# Altium integrated library Analog Devices Data Converters Digital-to-Analog Converters.IntLib: 2231 symbols (part 63 of 181)
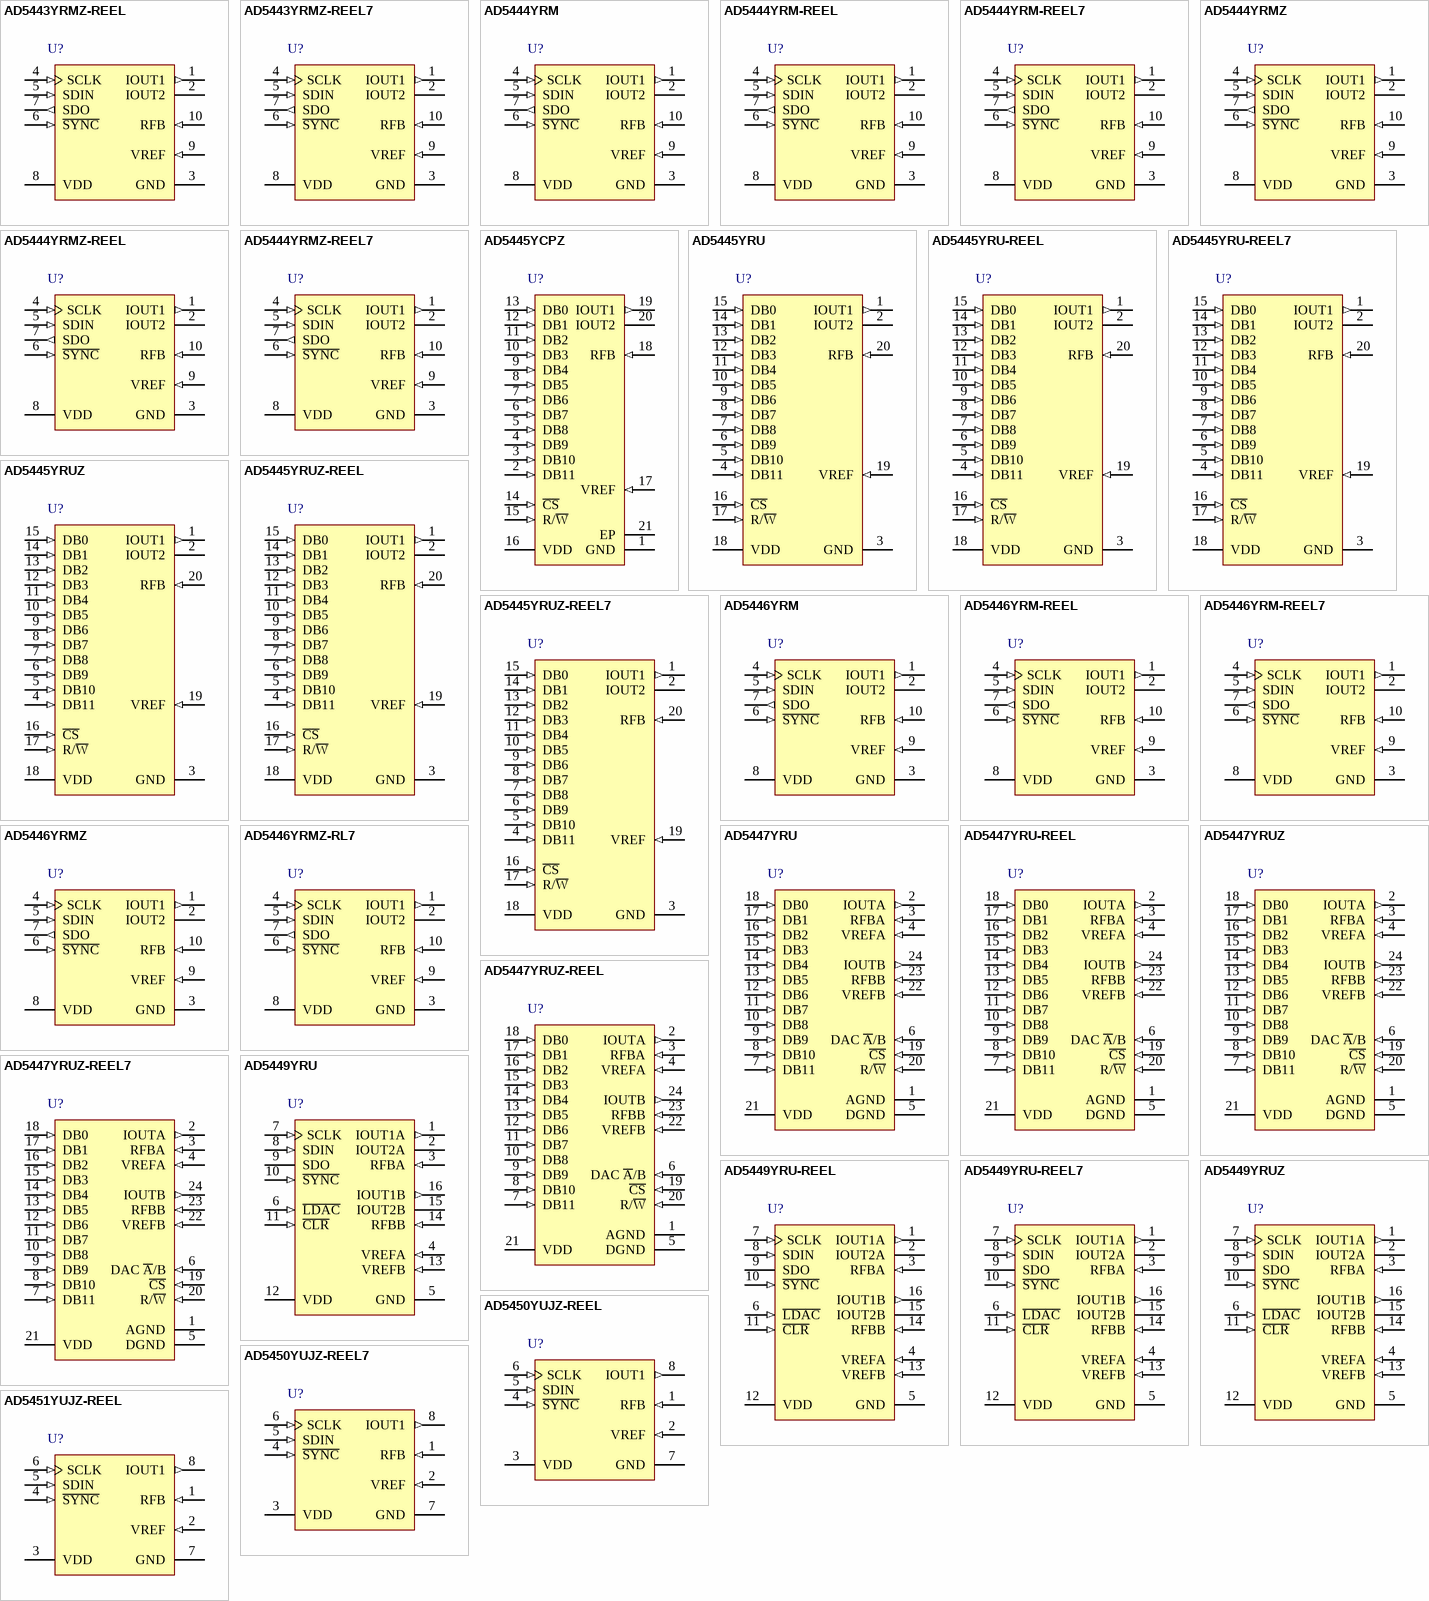
[diagram p176: symbols AD5443YRMZ-REEL to AD5451YUJZ-REEL]

## AD5450YUJZ-REEL7
designator U?
Single 8-Bit High Bandwidth Multiplying Digital-to-Analog Converter, -40 to +125 degC, UJ-8, Pb-Free, Reel; Generic Part Number: AD5450; Manufacturer: Analog Devices; PartNumber: AD5450YUJZ-REEL7; # DAC Outputs: 1; Max V+: 5.5V; Op Pwr Diss: 55µW; Resolution (Bits): 8; Settling Time: 100ns; Single Supply: Yes; DatasheetVersion: Rev.F; PackageVersion: Dec-2004; PackageReference: UJ-8; PackageDescription: 8-Lead Thin Small Outline Transistor Package [TSOT]; Supplier 1: Digi-Key; Supplier Part Number 1: AD5450YUJZ-REEL7TR-ND; Supplier 2: Digi-Key; Supplier Part Number 2: AD5450YUJZ-REEL7CT-ND; Supplier 3: Digi-Key; Supplier Part Number 3: AD5450YUJZ-REEL7DKR-ND; Supplier 4: Farnell; Supplier Part Number 4: 2312970; Supplier 5: Newark; Supplier Part Number 5: 59K4177; Supplier 6: Newark; Supplier Part Number 6: 67W3158; Supplier 7: Mouser; Supplier Part Number 7: 584-AD5450YUJZ-R7; Packing: Reel; RoHS: Y; Mounting Technology: Surface Mount; Code_JEDEC: MO-193-BA*; ComponentLink1Description: Manufacturer URL; ComponentLink1URL: http://www.analog.com/en/index.html; ComponentLink2Description: Datasheet; ComponentLink2URL: http://www.analog.com/static/imported-files/data_sheets/AD5450_5451_5452_5453.pdf; ComponentLink3Description: Package Specification; ComponentLink3URL: http://www.analog.com/static/imported-files/packages/PKG_PDF/TSOT(UJ)/UJ_8.pdf; ComponentLink4Description: Product URL; ComponentLink4URL: http://www.analog.com/en/digital-to-analog-converters/da-converters/ad5450/products/product.html; ComponentLink5Description: Reference Design URL; ComponentLink5URL: http://www.analog.com/en/digital-to-analog-converters/da-converters/ad5450/products/product.html#prod_cross_sell
footprint UJ-8_N (SOP, 8-Leads, Body 2.9x1.6mm, Pitch 0.65mm, IPC Medium Density)
footprint UJ-8_L (SOP, 8-Leads, Body 2.9x1.6mm, Pitch 0.65mm, IPC High Density)
footprint UJ-8_M (SOP, 8-Leads, Body 2.9x1.6mm, Pitch 0.65mm, IPC Low Density)
pins: 1 RFB (in) "DAC Feedback Resistor. Establish voltage output for the DAC by connecting to external amplifier output.", 2 VREF (in) "DAC Reference Voltage Input.", 3 VDD (power) "Positive Power Supply Input. These parts can operate from a supply of 2.5 V to 5.5 V.", 4 ~{SYNC} (in) "Active Low Control Input. This is the frame synchronization signal for the input data. Data is loaded to the shift register upon the active edge of the following clocks.", 5 SDIN (in) "Serial Data Input. Data is clocked into the 16-bit input register upon the active edge of the serial clock input. By default, in power-up mode data is clocked into the shift register upon the falling edge of SCLK. The (See Datasheet)", 6 SCLK (in) "Serial Clock Input. By default, data is clocked into the input shift register upon the falling edge of the serial clock input. Alternatively, by means of the serial control bits, the device can be configured such that data (See Datasheet)", 7 GND (power) "Ground Pin.", 8 IOUT1 (out) "DAC Current Output."

## AD5451YUJZ-REEL
designator U?
Single 10-Bit High Bandwidth Multiplying Digital-to-Analog Converter, -40 to +125 degC, UJ-8, Pb-Free, Reel; Generic Part Number: AD5451; Manufacturer: Analog Devices; PartNumber: AD5451YUJZ-REEL; # DAC Outputs: 1; Max V+: 5.5V; Op Pwr Diss: 55µW; Resolution (Bits): 10; Settling Time: 110ns; Single Supply: Yes; DatasheetVersion: Rev.F; PackageVersion: Dec-2004; PackageReference: UJ-8; PackageDescription: 8-Lead Thin Small Outline Transistor Package [TSOT]; Supplier 1: Digi-Key; Supplier Part Number 1: AD5451YUJZ-REEL-ND; Supplier 2: Newark; Supplier Part Number 2: 59K4180; Supplier 3: Mouser; Supplier Part Number 3: 584-AD5451YUJZ-R; Packing: Reel; RoHS: Y; Mounting Technology: Surface Mount; Code_JEDEC: MO-193-BA*; ComponentLink1Description: Manufacturer URL; ComponentLink1URL: http://www.analog.com/en/index.html; ComponentLink2Description: Datasheet; ComponentLink2URL: http://www.analog.com/static/imported-files/data_sheets/AD5450_5451_5452_5453.pdf; ComponentLink3Description: Package Specification; ComponentLink3URL: http://www.analog.com/static/imported-files/packages/PKG_PDF/TSOT(UJ)/UJ_8.pdf; ComponentLink4Description: Product URL; ComponentLink4URL: http://www.analog.com/en/digital-to-analog-converters/da-converters/ad5451/products/product.html; ComponentLink5Description: Reference Design URL; ComponentLink5URL: http://www.analog.com/en/digital-to-analog-converters/da-converters/ad5451/products/product.html#prod_cross_sell
footprint UJ-8_N (SOP, 8-Leads, Body 2.9x1.6mm, Pitch 0.65mm, IPC Medium Density)
footprint UJ-8_L (SOP, 8-Leads, Body 2.9x1.6mm, Pitch 0.65mm, IPC High Density)
footprint UJ-8_M (SOP, 8-Leads, Body 2.9x1.6mm, Pitch 0.65mm, IPC Low Density)
pins: 1 RFB (in) "DAC Feedback Resistor. Establish voltage output for the DAC by connecting to external amplifier output.", 2 VREF (in) "DAC Reference Voltage Input.", 3 VDD (power) "Positive Power Supply Input. These parts can operate from a supply of 2.5 V to 5.5 V.", 4 ~{SYNC} (in) "Active Low Control Input. This is the frame synchronization signal for the input data. Data is loaded to the shift register upon the active edge of the following clocks.", 5 SDIN (in) "Serial Data Input. Data is clocked into the 16-bit input register upon the active edge of the serial clock input. By default, in power-up mode data is clocked into the shift register upon the falling edge of SCLK. The (See Datasheet)", 6 SCLK (in) "Serial Clock Input. By default, data is clocked into the input shift register upon the falling edge of the serial clock input. Alternatively, by means of the serial control bits, the device can be configured such that data (See Datasheet)", 7 GND (power) "Ground Pin.", 8 IOUT1 (out) "DAC Current Output."

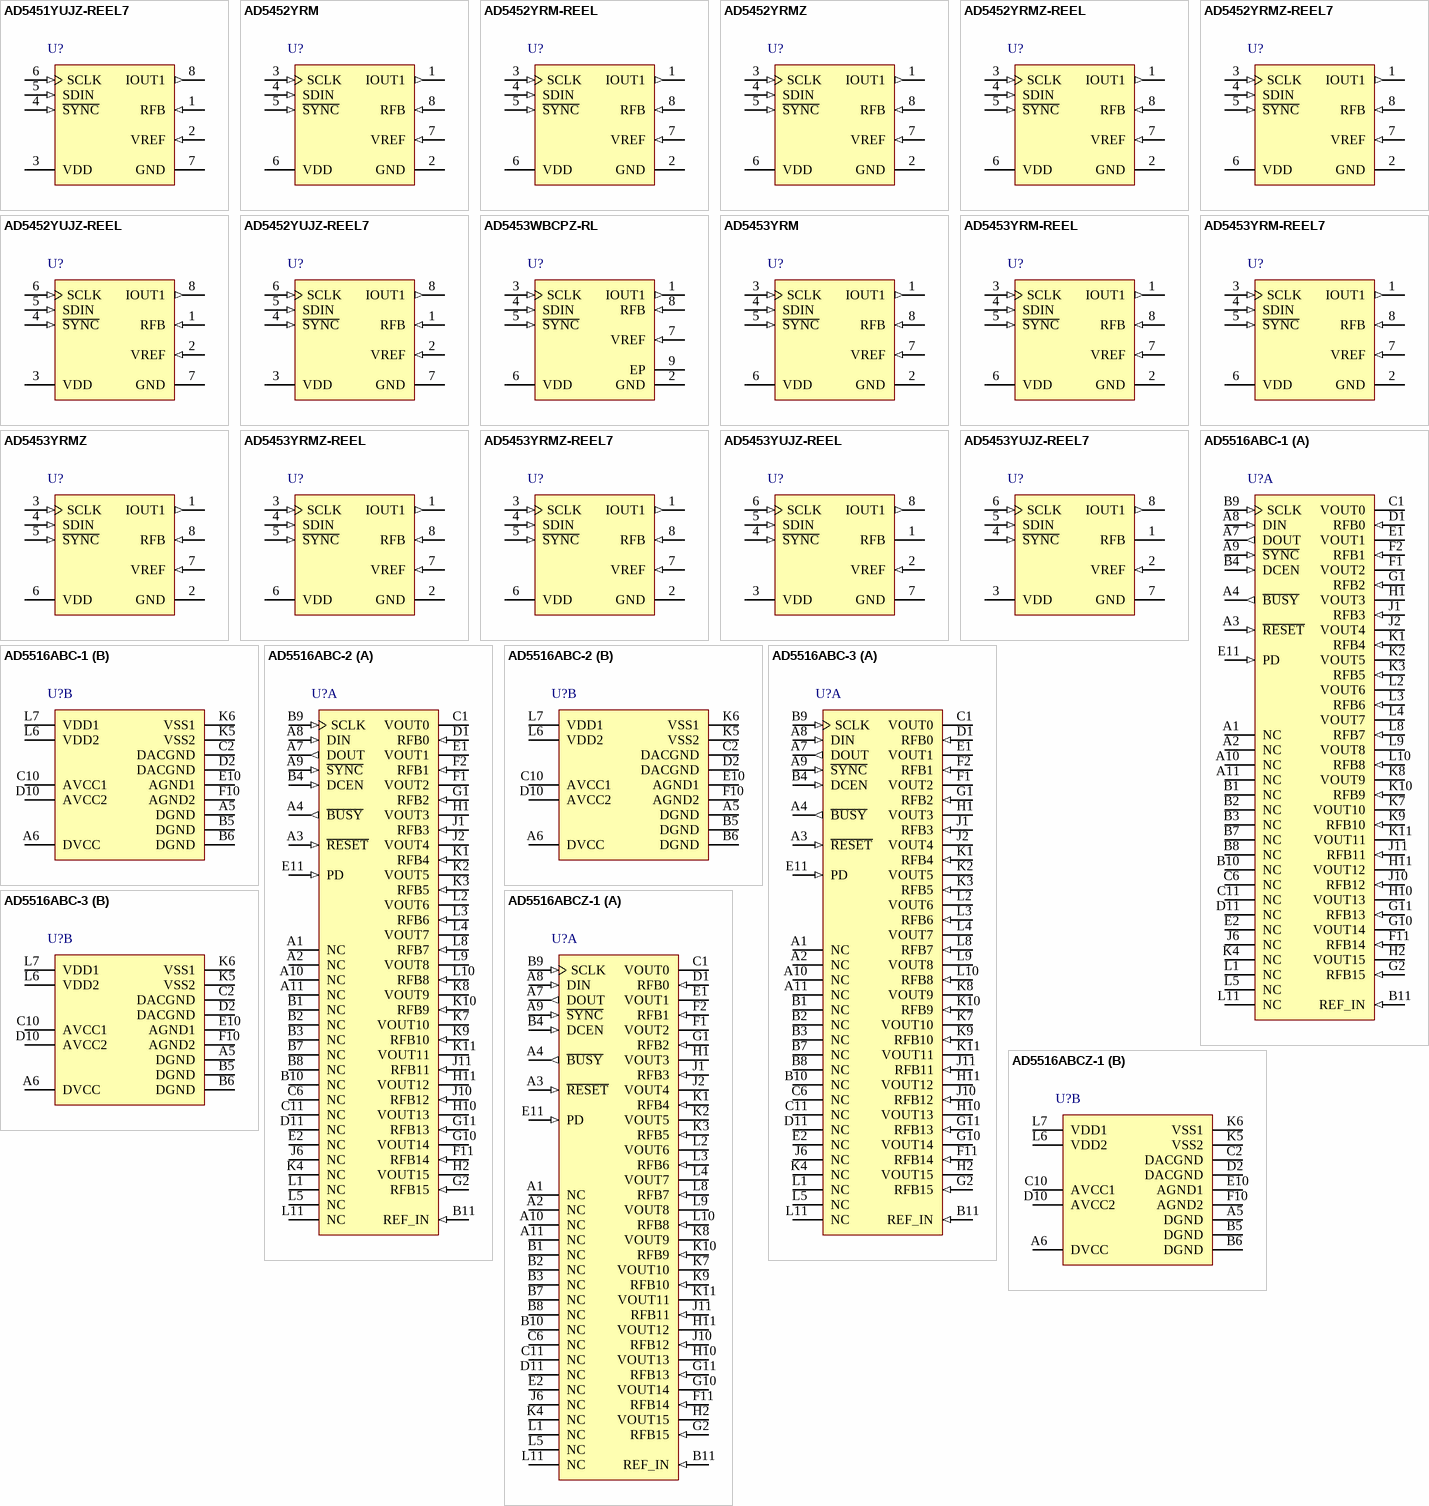
[diagram p34: symbols AD5451YUJZ-REEL7 to AD5516ABCZ-1]

## AD5451YUJZ-REEL7
designator U?
Single 10-Bit High Bandwidth Multiplying Digital-to-Analog Converter, -40 to +125 degC, UJ-8, Pb-Free, Reel; Generic Part Number: AD5451; Manufacturer: Analog Devices; PartNumber: AD5451YUJZ-REEL7; # DAC Outputs: 1; Max V+: 5.5V; Op Pwr Diss: 55µW; Resolution (Bits): 10; Settling Time: 110ns; Single Supply: Yes; DatasheetVersion: Rev.F; PackageVersion: Dec-2004; PackageReference: UJ-8; PackageDescription: 8-Lead Thin Small Outline Transistor Package [TSOT]; Supplier 1: Digi-Key; Supplier Part Number 1: AD5451YUJZ-REEL7TR-ND; Supplier 2: Digi-Key; Supplier Part Number 2: AD5451YUJZ-REEL7CT-ND; Supplier 3: Digi-Key; Supplier Part Number 3: AD5451YUJZ-REEL7DKR-ND; Supplier 4: Newark; Supplier Part Number 4: 59K4181; Supplier 5: Mouser; Supplier Part Number 5: 584-AD5451YUJZ-R7; Packing: Reel; RoHS: Y; Mounting Technology: Surface Mount; Code_JEDEC: MO-193-BA*; ComponentLink1Description: Manufacturer URL; ComponentLink1URL: http://www.analog.com/en/index.html; ComponentLink2Description: Datasheet; ComponentLink2URL: http://www.analog.com/static/imported-files/data_sheets/AD5450_5451_5452_5453.pdf; ComponentLink3Description: Package Specification; ComponentLink3URL: http://www.analog.com/static/imported-files/packages/PKG_PDF/TSOT(UJ)/UJ_8.pdf; ComponentLink4Description: Product URL; ComponentLink4URL: http://www.analog.com/en/digital-to-analog-converters/da-converters/ad5451/products/product.html; ComponentLink5Description: Reference Design URL; ComponentLink5URL: http://www.analog.com/en/digital-to-analog-converters/da-converters/ad5451/products/product.html#prod_cross_sell
footprint UJ-8_N (SOP, 8-Leads, Body 2.9x1.6mm, Pitch 0.65mm, IPC Medium Density)
footprint UJ-8_L (SOP, 8-Leads, Body 2.9x1.6mm, Pitch 0.65mm, IPC High Density)
footprint UJ-8_M (SOP, 8-Leads, Body 2.9x1.6mm, Pitch 0.65mm, IPC Low Density)
pins: 1 RFB (in) "DAC Feedback Resistor. Establish voltage output for the DAC by connecting to external amplifier output.", 2 VREF (in) "DAC Reference Voltage Input.", 3 VDD (power) "Positive Power Supply Input. These parts can operate from a supply of 2.5 V to 5.5 V.", 4 ~{SYNC} (in) "Active Low Control Input. This is the frame synchronization signal for the input data. Data is loaded to the shift register upon the active edge of the following clocks.", 5 SDIN (in) "Serial Data Input. Data is clocked into the 16-bit input register upon the active edge of the serial clock input. By default, in power-up mode data is clocked into the shift register upon the falling edge of SCLK. The (See Datasheet)", 6 SCLK (in) "Serial Clock Input. By default, data is clocked into the input shift register upon the falling edge of the serial clock input. Alternatively, by means of the serial control bits, the device can be configured such that data (See Datasheet)", 7 GND (power) "Ground Pin.", 8 IOUT1 (out) "DAC Current Output."

## AD5452YRM
designator U?
Single 12-Bit High Bandwidth Multiplying Digital-to-Analog Converter, -40 to +125 degC, RM-8, Tube; Generic Part Number: AD5452; Manufacturer: Analog Devices; PartNumber: AD5452YRM; # DAC Outputs: 1; Max V+: 5.5V; Op Pwr Diss: 55µW; Resolution (Bits): 12; Settling Time: 160ns; Single Supply: Yes; DatasheetVersion: Rev.F; PackageVersion: Aug-2005; PackageReference: RM-8; PackageDescription: 8-Lead Mini Small Outline Package [MSOP]; Supplier 1: Digi-Key; Supplier Part Number 1: AD5452YRM-ND; Supplier 2: Mouser; Supplier Part Number 2: 584-AD5452YRM; Packing: Tube; RoHS: N; Mounting Technology: Surface Mount; Code_JEDEC: MO-187-AA; ComponentLink1Description: Manufacturer URL; ComponentLink1URL: http://www.analog.com/en/index.html; ComponentLink2Description: Datasheet; ComponentLink2URL: http://www.analog.com/static/imported-files/data_sheets/AD5450_5451_5452_5453.pdf; ComponentLink3Description: Package Specification; ComponentLink3URL: http://www.analog.com/static/imported-files/packages/PKG_PDF/MSOP%28RM%29/RM_8.pdf; ComponentLink4Description: Product URL; ComponentLink4URL: http://www.analog.com/en/digital-to-analog-converters/da-converters/ad5452/products/product.html; ComponentLink5Description: Reference Design URL; ComponentLink5URL: http://www.analog.com/en/digital-to-analog-converters/da-converters/ad5452/products/product.html#prod_cross_sell
footprint RM-8_N (TSOP, 8-Leads, Body 3x3mm, Pitch 0.65mm, IPC Medium Density)
footprint RM-8_L (TSOP, 8-Leads, Body 3x3mm, Pitch 0.65mm, IPC High Density)
footprint RM-8_M (TSOP, 8-Leads, Body 3x3mm, Pitch 0.65mm, IPC Low Density)
pins: 1 IOUT1 (out) "DAC Current Output.", 2 GND (power) "Ground Pin.", 3 SCLK (in) "Serial Clock Input. By default, data is clocked into the input shift register upon the falling edge of the serial clock input. Alternatively, by means of the serial control bits, the device can be configured such that data (See Datasheet)", 4 SDIN (in) "Serial Data Input. Data is clocked into the 16-bit input register upon the active edge of the serial clock input. By default, in power-up mode data is clocked into the shift register upon the falling edge of SCLK. The (See Datasheet)", 5 ~{SYNC} (in) "Active Low Control Input. This is the frame synchronization signal for the input data. Data is loaded to the shift register upon the active edge of the following clocks.", 6 VDD (power) "Positive Power Supply Input. These parts can operate from a supply of 2.5 V to 5.5 V.", 7 VREF (in) "DAC Reference Voltage Input.", 8 RFB (in) "DAC Feedback Resistor. Establish voltage output for the DAC by connecting to external amplifier output."

## AD5452YRM-REEL
designator U?
Single 12-Bit High Bandwidth Multiplying Digital-to-Analog Converter, -40 to +125 degC, RM-8, Reel; Generic Part Number: AD5452; Manufacturer: Analog Devices; PartNumber: AD5452YRM-REEL; # DAC Outputs: 1; Max V+: 5.5V; Op Pwr Diss: 55µW; Resolution (Bits): 12; Settling Time: 160ns; Single Supply: Yes; DatasheetVersion: Rev.F; PackageVersion: Aug-2005; PackageReference: RM-8; PackageDescription: 8-Lead Mini Small Outline Package [MSOP]; Supplier 1: Digi-Key; Supplier Part Number 1: AD5452YRM-REEL-ND; Supplier 2: Mouser; Supplier Part Number 2: 584-AD5452YRM-R; Packing: Reel; RoHS: N; Mounting Technology: Surface Mount; Code_JEDEC: MO-187-AA; ComponentLink1Description: Manufacturer URL; ComponentLink1URL: http://www.analog.com/en/index.html; ComponentLink2Description: Datasheet; ComponentLink2URL: http://www.analog.com/static/imported-files/data_sheets/AD5450_5451_5452_5453.pdf; ComponentLink3Description: Package Specification; ComponentLink3URL: http://www.analog.com/static/imported-files/packages/PKG_PDF/MSOP%28RM%29/RM_8.pdf; ComponentLink4Description: Product URL; ComponentLink4URL: http://www.analog.com/en/digital-to-analog-converters/da-converters/ad5452/products/product.html; ComponentLink5Description: Reference Design URL; ComponentLink5URL: http://www.analog.com/en/digital-to-analog-converters/da-converters/ad5452/products/product.html#prod_cross_sell
footprint RM-8_N (TSOP, 8-Leads, Body 3x3mm, Pitch 0.65mm, IPC Medium Density)
footprint RM-8_L (TSOP, 8-Leads, Body 3x3mm, Pitch 0.65mm, IPC High Density)
footprint RM-8_M (TSOP, 8-Leads, Body 3x3mm, Pitch 0.65mm, IPC Low Density)
pins: 1 IOUT1 (out) "DAC Current Output.", 2 GND (power) "Ground Pin.", 3 SCLK (in) "Serial Clock Input. By default, data is clocked into the input shift register upon the falling edge of the serial clock input. Alternatively, by means of the serial control bits, the device can be configured such that data (See Datasheet)", 4 SDIN (in) "Serial Data Input. Data is clocked into the 16-bit input register upon the active edge of the serial clock input. By default, in power-up mode data is clocked into the shift register upon the falling edge of SCLK. The (See Datasheet)", 5 ~{SYNC} (in) "Active Low Control Input. This is the frame synchronization signal for the input data. Data is loaded to the shift register upon the active edge of the following clocks.", 6 VDD (power) "Positive Power Supply Input. These parts can operate from a supply of 2.5 V to 5.5 V.", 7 VREF (in) "DAC Reference Voltage Input.", 8 RFB (in) "DAC Feedback Resistor. Establish voltage output for the DAC by connecting to external amplifier output."

## AD5452YRMZ
designator U?
Single 12-Bit High Bandwidth Multiplying Digital-to-Analog Converter, -40 to +125 degC, RM-8, Pb-Free, Tube; Generic Part Number: AD5452; Manufacturer: Analog Devices; PartNumber: AD5452YRMZ; # DAC Outputs: 1; Max V+: 5.5V; Op Pwr Diss: 55µW; Resolution (Bits): 12; Settling Time: 160ns; Single Supply: Yes; DatasheetVersion: Rev.F; PackageVersion: Aug-2005; PackageReference: RM-8; PackageDescription: 8-Lead Mini Small Outline Package [MSOP]; Supplier 1: Digi-Key; Supplier Part Number 1: AD5452YRMZ-ND; Supplier 2: Farnell; Supplier Part Number 2: 9453091; Supplier 3: Newark; Supplier Part Number 3: 59K4185; Supplier 4: Mouser; Supplier Part Number 4: 584-AD5452YRMZ; Packing: Tube; RoHS: Y; Mounting Technology: Surface Mount; Code_JEDEC: MO-187-AA; ComponentLink1Description: Manufacturer URL; ComponentLink1URL: http://www.analog.com/en/index.html; ComponentLink2Description: Datasheet; ComponentLink2URL: http://www.analog.com/static/imported-files/data_sheets/AD5450_5451_5452_5453.pdf; ComponentLink3Description: Package Specification; ComponentLink3URL: http://www.analog.com/static/imported-files/packages/PKG_PDF/MSOP%28RM%29/RM_8.pdf; ComponentLink4Description: Product URL; ComponentLink4URL: http://www.analog.com/en/digital-to-analog-converters/da-converters/ad5452/products/product.html; ComponentLink5Description: Reference Design URL; ComponentLink5URL: http://www.analog.com/en/digital-to-analog-converters/da-converters/ad5452/products/product.html#prod_cross_sell
footprint RM-8_N (TSOP, 8-Leads, Body 3x3mm, Pitch 0.65mm, IPC Medium Density)
footprint RM-8_L (TSOP, 8-Leads, Body 3x3mm, Pitch 0.65mm, IPC High Density)
footprint RM-8_M (TSOP, 8-Leads, Body 3x3mm, Pitch 0.65mm, IPC Low Density)
pins: 1 IOUT1 (out) "DAC Current Output.", 2 GND (power) "Ground Pin.", 3 SCLK (in) "Serial Clock Input. By default, data is clocked into the input shift register upon the falling edge of the serial clock input. Alternatively, by means of the serial control bits, the device can be configured such that data (See Datasheet)", 4 SDIN (in) "Serial Data Input. Data is clocked into the 16-bit input register upon the active edge of the serial clock input. By default, in power-up mode data is clocked into the shift register upon the falling edge of SCLK. The (See Datasheet)", 5 ~{SYNC} (in) "Active Low Control Input. This is the frame synchronization signal for the input data. Data is loaded to the shift register upon the active edge of the following clocks.", 6 VDD (power) "Positive Power Supply Input. These parts can operate from a supply of 2.5 V to 5.5 V.", 7 VREF (in) "DAC Reference Voltage Input.", 8 RFB (in) "DAC Feedback Resistor. Establish voltage output for the DAC by connecting to external amplifier output."

## AD5452YRMZ-REEL
designator U?
Single 12-Bit High Bandwidth Multiplying Digital-to-Analog Converter, -40 to +125 degC, RM-8, Pb-Free, Reel; Generic Part Number: AD5452; Manufacturer: Analog Devices; PartNumber: AD5452YRMZ-REEL; # DAC Outputs: 1; Max V+: 5.5V; Op Pwr Diss: 55µW; Resolution (Bits): 12; Settling Time: 160ns; Single Supply: Yes; DatasheetVersion: Rev.F; PackageVersion: Aug-2005; PackageReference: RM-8; PackageDescription: 8-Lead Mini Small Outline Package [MSOP]; Supplier 1: Digi-Key; Supplier Part Number 1: AD5452YRMZ-REEL-ND; Supplier 2: Newark; Supplier Part Number 2: 59K4186; Supplier 3: Mouser; Supplier Part Number 3: 584-AD5452YRMZ-R; Packing: Reel; RoHS: Y; Mounting Technology: Surface Mount; Code_JEDEC: MO-187-AA; ComponentLink1Description: Manufacturer URL; ComponentLink1URL: http://www.analog.com/en/index.html; ComponentLink2Description: Datasheet; ComponentLink2URL: http://www.analog.com/static/imported-files/data_sheets/AD5450_5451_5452_5453.pdf; ComponentLink3Description: Package Specification; ComponentLink3URL: http://www.analog.com/static/imported-files/packages/PKG_PDF/MSOP%28RM%29/RM_8.pdf; ComponentLink4Description: Product URL; ComponentLink4URL: http://www.analog.com/en/digital-to-analog-converters/da-converters/ad5452/products/product.html; ComponentLink5Description: Reference Design URL; ComponentLink5URL: http://www.analog.com/en/digital-to-analog-converters/da-converters/ad5452/products/product.html#prod_cross_sell
footprint RM-8_N (TSOP, 8-Leads, Body 3x3mm, Pitch 0.65mm, IPC Medium Density)
footprint RM-8_L (TSOP, 8-Leads, Body 3x3mm, Pitch 0.65mm, IPC High Density)
footprint RM-8_M (TSOP, 8-Leads, Body 3x3mm, Pitch 0.65mm, IPC Low Density)
pins: 1 IOUT1 (out) "DAC Current Output.", 2 GND (power) "Ground Pin.", 3 SCLK (in) "Serial Clock Input. By default, data is clocked into the input shift register upon the falling edge of the serial clock input. Alternatively, by means of the serial control bits, the device can be configured such that data (See Datasheet)", 4 SDIN (in) "Serial Data Input. Data is clocked into the 16-bit input register upon the active edge of the serial clock input. By default, in power-up mode data is clocked into the shift register upon the falling edge of SCLK. The (See Datasheet)", 5 ~{SYNC} (in) "Active Low Control Input. This is the frame synchronization signal for the input data. Data is loaded to the shift register upon the active edge of the following clocks.", 6 VDD (power) "Positive Power Supply Input. These parts can operate from a supply of 2.5 V to 5.5 V.", 7 VREF (in) "DAC Reference Voltage Input.", 8 RFB (in) "DAC Feedback Resistor. Establish voltage output for the DAC by connecting to external amplifier output."

## AD5452YRMZ-REEL7
designator U?
Single 12-Bit High Bandwidth Multiplying Digital-to-Analog Converter, -40 to +125 degC, RM-8, Pb-Free, Reel; Generic Part Number: AD5452; Manufacturer: Analog Devices; PartNumber: AD5452YRMZ-REEL7; # DAC Outputs: 1; Max V+: 5.5V; Op Pwr Diss: 55µW; Resolution (Bits): 12; Settling Time: 160ns; Single Supply: Yes; DatasheetVersion: Rev.F; PackageVersion: Aug-2005; PackageReference: RM-8; PackageDescription: 8-Lead Mini Small Outline Package [MSOP]; Supplier 1: Digi-Key; Supplier Part Number 1: AD5452YRMZ-REEL7-ND; Supplier 2: Newark; Supplier Part Number 2: 59K4187; Supplier 3: Mouser; Supplier Part Number 3: 584-AD5452YRMZ-R7; Packing: Reel; RoHS: Y; Mounting Technology: Surface Mount; Code_JEDEC: MO-187-AA; ComponentLink1Description: Manufacturer URL; ComponentLink1URL: http://www.analog.com/en/index.html; ComponentLink2Description: Datasheet; ComponentLink2URL: http://www.analog.com/static/imported-files/data_sheets/AD5450_5451_5452_5453.pdf; ComponentLink3Description: Package Specification; ComponentLink3URL: http://www.analog.com/static/imported-files/packages/PKG_PDF/MSOP%28RM%29/RM_8.pdf; ComponentLink4Description: Product URL; ComponentLink4URL: http://www.analog.com/en/digital-to-analog-converters/da-converters/ad5452/products/product.html; ComponentLink5Description: Reference Design URL; ComponentLink5URL: http://www.analog.com/en/digital-to-analog-converters/da-converters/ad5452/products/product.html#prod_cross_sell
footprint RM-8_N (TSOP, 8-Leads, Body 3x3mm, Pitch 0.65mm, IPC Medium Density)
footprint RM-8_L (TSOP, 8-Leads, Body 3x3mm, Pitch 0.65mm, IPC High Density)
footprint RM-8_M (TSOP, 8-Leads, Body 3x3mm, Pitch 0.65mm, IPC Low Density)
pins: 1 IOUT1 (out) "DAC Current Output.", 2 GND (power) "Ground Pin.", 3 SCLK (in) "Serial Clock Input. By default, data is clocked into the input shift register upon the falling edge of the serial clock input. Alternatively, by means of the serial control bits, the device can be configured such that data (See Datasheet)", 4 SDIN (in) "Serial Data Input. Data is clocked into the 16-bit input register upon the active edge of the serial clock input. By default, in power-up mode data is clocked into the shift register upon the falling edge of SCLK. The (See Datasheet)", 5 ~{SYNC} (in) "Active Low Control Input. This is the frame synchronization signal for the input data. Data is loaded to the shift register upon the active edge of the following clocks.", 6 VDD (power) "Positive Power Supply Input. These parts can operate from a supply of 2.5 V to 5.5 V.", 7 VREF (in) "DAC Reference Voltage Input.", 8 RFB (in) "DAC Feedback Resistor. Establish voltage output for the DAC by connecting to external amplifier output."

## AD5452YUJZ-REEL
designator U?
Single 12-Bit High Bandwidth Multiplying Digital-to-Analog Converter, -40 to +125 degC, UJ-8, Pb-Free, Reel; Generic Part Number: AD5452; Manufacturer: Analog Devices; PartNumber: AD5452YUJZ-REEL; # DAC Outputs: 1; Max V+: 5.5V; Op Pwr Diss: 55µW; Resolution (Bits): 12; Settling Time: 160ns; Single Supply: Yes; DatasheetVersion: Rev.F; PackageVersion: Dec-2004; PackageReference: UJ-8; PackageDescription: 8-Lead Thin Small Outline Transistor Package [TSOT]; Supplier 1: Digi-Key; Supplier Part Number 1: AD5452YUJZ-REEL-ND; Supplier 2: Mouser; Supplier Part Number 2: 584-AD5452YUJZ-R; Packing: Reel; RoHS: Y; Mounting Technology: Surface Mount; Code_JEDEC: MO-193-BA*; ComponentLink1Description: Manufacturer URL; ComponentLink1URL: http://www.analog.com/en/index.html; ComponentLink2Description: Datasheet; ComponentLink2URL: http://www.analog.com/static/imported-files/data_sheets/AD5450_5451_5452_5453.pdf; ComponentLink3Description: Package Specification; ComponentLink3URL: http://www.analog.com/static/imported-files/packages/PKG_PDF/TSOT(UJ)/UJ_8.pdf; ComponentLink4Description: Product URL; ComponentLink4URL: http://www.analog.com/en/digital-to-analog-converters/da-converters/ad5452/products/product.html; ComponentLink5Description: Reference Design URL; ComponentLink5URL: http://www.analog.com/en/digital-to-analog-converters/da-converters/ad5452/products/product.html#prod_cross_sell
footprint UJ-8_N (SOP, 8-Leads, Body 2.9x1.6mm, Pitch 0.65mm, IPC Medium Density)
footprint UJ-8_L (SOP, 8-Leads, Body 2.9x1.6mm, Pitch 0.65mm, IPC High Density)
footprint UJ-8_M (SOP, 8-Leads, Body 2.9x1.6mm, Pitch 0.65mm, IPC Low Density)
pins: 1 RFB (in) "DAC Feedback Resistor. Establish voltage output for the DAC by connecting to external amplifier output.", 2 VREF (in) "DAC Reference Voltage Input.", 3 VDD (power) "Positive Power Supply Input. These parts can operate from a supply of 2.5 V to 5.5 V.", 4 ~{SYNC} (in) "Active Low Control Input. This is the frame synchronization signal for the input data. Data is loaded to the shift register upon the active edge of the following clocks.", 5 SDIN (in) "Serial Data Input. Data is clocked into the 16-bit input register upon the active edge of the serial clock input. By default, in power-up mode data is clocked into the shift register upon the falling edge of SCLK. The (See Datasheet)", 6 SCLK (in) "Serial Clock Input. By default, data is clocked into the input shift register upon the falling edge of the serial clock input. Alternatively, by means of the serial control bits, the device can be configured such that data (See Datasheet)", 7 GND (power) "Ground Pin.", 8 IOUT1 (out) "DAC Current Output."

## AD5452YUJZ-REEL7
designator U?
Single 12-Bit High Bandwidth Multiplying Digital-to-Analog Converter, -40 to +125 degC, UJ-8, Pb-Free, Reel; Generic Part Number: AD5452; Manufacturer: Analog Devices; PartNumber: AD5452YUJZ-REEL7; # DAC Outputs: 1; Max V+: 5.5V; Op Pwr Diss: 55µW; Resolution (Bits): 12; Settling Time: 160ns; Single Supply: Yes; DatasheetVersion: Rev.F; PackageVersion: Dec-2004; PackageReference: UJ-8; PackageDescription: 8-Lead Thin Small Outline Transistor Package [TSOT]; Supplier 1: Digi-Key; Supplier Part Number 1: AD5452YUJZ-REEL7TR-ND; Supplier 2: Digi-Key; Supplier Part Number 2: AD5452YUJZ-REEL7CT-ND; Supplier 3: Digi-Key; Supplier Part Number 3: AD5452YUJZ-REEL7DKR-ND; Supplier 4: Farnell; Supplier Part Number 4: 2314129; Supplier 5: Newark; Supplier Part Number 5: 59K4191; Supplier 6: Newark; Supplier Part Number 6: 67W3159; Supplier 7: Mouser; Supplier Part Number 7: 584-AD5452YUJZ-R7; Packing: Reel; RoHS: Y; Mounting Technology: Surface Mount; Code_JEDEC: MO-193-BA*; ComponentLink1Description: Manufacturer URL; ComponentLink1URL: http://www.analog.com/en/index.html; ComponentLink2Description: Datasheet; ComponentLink2URL: http://www.analog.com/static/imported-files/data_sheets/AD5450_5451_5452_5453.pdf; ComponentLink3Description: Package Specification; ComponentLink3URL: http://www.analog.com/static/imported-files/packages/PKG_PDF/TSOT(UJ)/UJ_8.pdf; ComponentLink4Description: Product URL; ComponentLink4URL: http://www.analog.com/en/digital-to-analog-converters/da-converters/ad5452/products/product.html; ComponentLink5Description: Reference Design URL; ComponentLink5URL: http://www.analog.com/en/digital-to-analog-converters/da-converters/ad5452/products/product.html#prod_cross_sell
footprint UJ-8_N (SOP, 8-Leads, Body 2.9x1.6mm, Pitch 0.65mm, IPC Medium Density)
footprint UJ-8_L (SOP, 8-Leads, Body 2.9x1.6mm, Pitch 0.65mm, IPC High Density)
footprint UJ-8_M (SOP, 8-Leads, Body 2.9x1.6mm, Pitch 0.65mm, IPC Low Density)
pins: 1 RFB (in) "DAC Feedback Resistor. Establish voltage output for the DAC by connecting to external amplifier output.", 2 VREF (in) "DAC Reference Voltage Input.", 3 VDD (power) "Positive Power Supply Input. These parts can operate from a supply of 2.5 V to 5.5 V.", 4 ~{SYNC} (in) "Active Low Control Input. This is the frame synchronization signal for the input data. Data is loaded to the shift register upon the active edge of the following clocks.", 5 SDIN (in) "Serial Data Input. Data is clocked into the 16-bit input register upon the active edge of the serial clock input. By default, in power-up mode data is clocked into the shift register upon the falling edge of SCLK. The (See Datasheet)", 6 SCLK (in) "Serial Clock Input. By default, data is clocked into the input shift register upon the falling edge of the serial clock input. Alternatively, by means of the serial control bits, the device can be configured such that data (See Datasheet)", 7 GND (power) "Ground Pin.", 8 IOUT1 (out) "DAC Current Output."

## AD5453WBCPZ-RL
designator U?
Single 14-Bit High Bandwidth Multiplying Digital-to-Analog Converter, -40 to +125 degC, CP-8-3, Pb-Free, Reel; Generic Part Number: AD5453; Manufacturer: Analog Devices; PartNumber: AD5453WBCPZ-RL; # DAC Outputs: 1; Max V+: 5.5V; Resolution (Bits): 14; Settling Time: 180ns; Single Supply: Yes; DatasheetVersion: Rev.F; PackageVersion: 041608-B; PackageReference: CP-8-3; PackageDescription: 8-Lead Lead Frame Chip Scale Package [LFCSP_WD] 3 x 3 mm Body, Very Very Thin, Dual Lead; Supplier 1: Digi-Key; Supplier Part Number 1: AD5453WBCPZ-RL-ND; Supplier 2: Mouser; Supplier Part Number 2: 584-AD5453WBCPZ-R; Packing: Reel; RoHS: Y; Mounting Technology: Surface Mount; ComponentLink1Description: Manufacturer URL; ComponentLink1URL: http://www.analog.com/en/index.html; ComponentLink2Description: Datasheet; ComponentLink2URL: http://www.analog.com/static/imported-files/data_sheets/AD5450_5451_5452_5453.pdf; ComponentLink3Description: Product URL; ComponentLink3URL: http://www.analog.com/en/digital-to-analog-converters/da-converters/ad5453/products/product.html; ComponentLink4Description: Reference Design URL; ComponentLink4URL: http://www.analog.com/en/digital-to-analog-converters/da-converters/ad5453/products/product.html#prod_cross_sell
footprint CP-8-3_N (SON, 8-Leads, Body 3x3mm, Pitch 0.65mm, Thermal Pad 2.35x1.6mm, IPC Medium Density)
footprint CP-8-3_L (SON, 8-Leads, Body 3x3mm, Pitch 0.65mm, Thermal Pad 2.35x1.6mm, IPC High Density)
footprint CP-8-3_M (SON, 8-Leads, Body 3x3mm, Pitch 0.65mm, Thermal Pad 2.35x1.6mm, IPC Low Density)
pins: 1 IOUT1 (out) "DAC Current Output.", 2 GND (power) "Ground Pin.", 3 SCLK (in) "Serial Clock Input. By default, data is clocked into the input shift register upon the falling edge of the serial clock input. Alternatively, by means of the serial control bits, the device can be configured such that data (See Datasheet)", 4 SDIN (in) "Serial Data Input. Data is clocked into the 16-bit input register upon the active edge of the serial clock input. By default, in power-up mode data is clocked into the shift register upon the falling edge of SCLK. The (See Datasheet)", 5 ~{SYNC} (in) "Active Low Control Input. This is the frame synchronization signal for the input data. Data is loaded to the shift register upon the active edge of the following clocks.", 6 VDD (power) "Positive Power Supply Input. These parts can operate from a supply of 2.5 V to 5.5 V.", 7 VREF (in) "DAC Reference Voltage Input.", 8 RFB (in) "DAC Feedback Resistor. Establish voltage output for the DAC by connecting to external amplifier output.", 9 EP (power) "Exposed pad must be connected to ground"

## AD5453YRM
designator U?
Single 14-Bit High Bandwidth Multiplying Digital-to-Analog Converter, -40 to +125 degC, RM-8, Tube; Generic Part Number: AD5453; Manufacturer: Analog Devices; PartNumber: AD5453YRM; # DAC Outputs: 1; Max V+: 5.5V; Resolution (Bits): 14; Settling Time: 180ns; Single Supply: Yes; DatasheetVersion: Rev.F; PackageVersion: Aug-2005; PackageReference: RM-8; PackageDescription: 8-Lead Mini Small Outline Package [MSOP]; Supplier 1: Digi-Key; Supplier Part Number 1: AD5453YRM-ND; Supplier 2: Mouser; Supplier Part Number 2: 584-AD5453YRM; Packing: Tube; RoHS: N; Mounting Technology: Surface Mount; Code_JEDEC: MO-187-AA; ComponentLink1Description: Manufacturer URL; ComponentLink1URL: http://www.analog.com/en/index.html; ComponentLink2Description: Datasheet; ComponentLink2URL: http://www.analog.com/static/imported-files/data_sheets/AD5450_5451_5452_5453.pdf; ComponentLink3Description: Package Specification; ComponentLink3URL: http://www.analog.com/static/imported-files/packages/PKG_PDF/MSOP%28RM%29/RM_8.pdf; ComponentLink4Description: Product URL; ComponentLink4URL: http://www.analog.com/en/digital-to-analog-converters/da-converters/ad5453/products/product.html; ComponentLink5Description: Reference Design URL; ComponentLink5URL: http://www.analog.com/en/digital-to-analog-converters/da-converters/ad5453/products/product.html#prod_cross_sell
footprint RM-8_N (TSOP, 8-Leads, Body 3x3mm, Pitch 0.65mm, IPC Medium Density)
footprint RM-8_L (TSOP, 8-Leads, Body 3x3mm, Pitch 0.65mm, IPC High Density)
footprint RM-8_M (TSOP, 8-Leads, Body 3x3mm, Pitch 0.65mm, IPC Low Density)
pins: 1 IOUT1 (out) "DAC Current Output.", 2 GND (power) "Ground Pin.", 3 SCLK (in) "Serial Clock Input. By default, data is clocked into the input shift register upon the falling edge of the serial clock input. Alternatively, by means of the serial control bits, the device can be configured such that data (See Datasheet)", 4 SDIN (in) "Serial Data Input. Data is clocked into the 16-bit input register upon the active edge of the serial clock input. By default, in power-up mode data is clocked into the shift register upon the falling edge of SCLK. The (See Datasheet)", 5 ~{SYNC} (in) "Active Low Control Input. This is the frame synchronization signal for the input data. Data is loaded to the shift register upon the active edge of the following clocks.", 6 VDD (power) "Positive Power Supply Input. These parts can operate from a supply of 2.5 V to 5.5 V.", 7 VREF (in) "DAC Reference Voltage Input.", 8 RFB (in) "DAC Feedback Resistor. Establish voltage output for the DAC by connecting to external amplifier output."

## AD5453YRM-REEL
designator U?
Single 14-Bit High Bandwidth Multiplying Digital-to-Analog Converter, -40 to +125 degC, RM-8, Reel; Generic Part Number: AD5453; Manufacturer: Analog Devices; PartNumber: AD5453YRM-REEL; # DAC Outputs: 1; Max V+: 5.5V; Resolution (Bits): 14; Settling Time: 180ns; Single Supply: Yes; DatasheetVersion: Rev.F; PackageVersion: Aug-2005; PackageReference: RM-8; PackageDescription: 8-Lead Mini Small Outline Package [MSOP]; Supplier 1: Digi-Key; Supplier Part Number 1: AD5453YRM-REEL-ND; Supplier 2: Mouser; Supplier Part Number 2: 584-AD5453YRM-R; Packing: Reel; RoHS: N; Mounting Technology: Surface Mount; Code_JEDEC: MO-187-AA; ComponentLink1Description: Manufacturer URL; ComponentLink1URL: http://www.analog.com/en/index.html; ComponentLink2Description: Datasheet; ComponentLink2URL: http://www.analog.com/static/imported-files/data_sheets/AD5450_5451_5452_5453.pdf; ComponentLink3Description: Package Specification; ComponentLink3URL: http://www.analog.com/static/imported-files/packages/PKG_PDF/MSOP%28RM%29/RM_8.pdf; ComponentLink4Description: Product URL; ComponentLink4URL: http://www.analog.com/en/digital-to-analog-converters/da-converters/ad5453/products/product.html; ComponentLink5Description: Reference Design URL; ComponentLink5URL: http://www.analog.com/en/digital-to-analog-converters/da-converters/ad5453/products/product.html#prod_cross_sell
footprint RM-8_N (TSOP, 8-Leads, Body 3x3mm, Pitch 0.65mm, IPC Medium Density)
footprint RM-8_L (TSOP, 8-Leads, Body 3x3mm, Pitch 0.65mm, IPC High Density)
footprint RM-8_M (TSOP, 8-Leads, Body 3x3mm, Pitch 0.65mm, IPC Low Density)
pins: 1 IOUT1 (out) "DAC Current Output.", 2 GND (power) "Ground Pin.", 3 SCLK (in) "Serial Clock Input. By default, data is clocked into the input shift register upon the falling edge of the serial clock input. Alternatively, by means of the serial control bits, the device can be configured such that data (See Datasheet)", 4 SDIN (in) "Serial Data Input. Data is clocked into the 16-bit input register upon the active edge of the serial clock input. By default, in power-up mode data is clocked into the shift register upon the falling edge of SCLK. The (See Datasheet)", 5 ~{SYNC} (in) "Active Low Control Input. This is the frame synchronization signal for the input data. Data is loaded to the shift register upon the active edge of the following clocks.", 6 VDD (power) "Positive Power Supply Input. These parts can operate from a supply of 2.5 V to 5.5 V.", 7 VREF (in) "DAC Reference Voltage Input.", 8 RFB (in) "DAC Feedback Resistor. Establish voltage output for the DAC by connecting to external amplifier output."

## AD5453YRM-REEL7
designator U?
Single 14-Bit High Bandwidth Multiplying Digital-to-Analog Converter, -40 to +125 degC, RM-8, Reel; Generic Part Number: AD5453; Manufacturer: Analog Devices; PartNumber: AD5453YRM-REEL7; # DAC Outputs: 1; Max V+: 5.5V; Resolution (Bits): 14; Settling Time: 180ns; Single Supply: Yes; DatasheetVersion: Rev.F; PackageVersion: Aug-2005; PackageReference: RM-8; PackageDescription: 8-Lead Mini Small Outline Package [MSOP]; Supplier 1: Digi-Key; Supplier Part Number 1: AD5453YRM-REEL7-ND; Supplier 2: Mouser; Supplier Part Number 2: 584-AD5453YRM-R7; Packing: Reel; RoHS: N; Mounting Technology: Surface Mount; Code_JEDEC: MO-187-AA; ComponentLink1Description: Manufacturer URL; ComponentLink1URL: http://www.analog.com/en/index.html; ComponentLink2Description: Datasheet; ComponentLink2URL: http://www.analog.com/static/imported-files/data_sheets/AD5450_5451_5452_5453.pdf; ComponentLink3Description: Package Specification; ComponentLink3URL: http://www.analog.com/static/imported-files/packages/PKG_PDF/MSOP%28RM%29/RM_8.pdf; ComponentLink4Description: Product URL; ComponentLink4URL: http://www.analog.com/en/digital-to-analog-converters/da-converters/ad5453/products/product.html; ComponentLink5Description: Reference Design URL; ComponentLink5URL: http://www.analog.com/en/digital-to-analog-converters/da-converters/ad5453/products/product.html#prod_cross_sell
footprint RM-8_N (TSOP, 8-Leads, Body 3x3mm, Pitch 0.65mm, IPC Medium Density)
footprint RM-8_L (TSOP, 8-Leads, Body 3x3mm, Pitch 0.65mm, IPC High Density)
footprint RM-8_M (TSOP, 8-Leads, Body 3x3mm, Pitch 0.65mm, IPC Low Density)
pins: 1 IOUT1 (out) "DAC Current Output.", 2 GND (power) "Ground Pin.", 3 SCLK (in) "Serial Clock Input. By default, data is clocked into the input shift register upon the falling edge of the serial clock input. Alternatively, by means of the serial control bits, the device can be configured such that data (See Datasheet)", 4 SDIN (in) "Serial Data Input. Data is clocked into the 16-bit input register upon the active edge of the serial clock input. By default, in power-up mode data is clocked into the shift register upon the falling edge of SCLK. The (See Datasheet)", 5 ~{SYNC} (in) "Active Low Control Input. This is the frame synchronization signal for the input data. Data is loaded to the shift register upon the active edge of the following clocks.", 6 VDD (power) "Positive Power Supply Input. These parts can operate from a supply of 2.5 V to 5.5 V.", 7 VREF (in) "DAC Reference Voltage Input.", 8 RFB (in) "DAC Feedback Resistor. Establish voltage output for the DAC by connecting to external amplifier output."

## AD5453YRMZ
designator U?
Single 14-Bit High Bandwidth Multiplying Digital-to-Analog Converter, -40 to +125 degC, RM-8, Pb-Free, Tube; Generic Part Number: AD5453; Manufacturer: Analog Devices; PartNumber: AD5453YRMZ; # DAC Outputs: 1; Max V+: 5.5V; Resolution (Bits): 14; Settling Time: 180ns; Single Supply: Yes; DatasheetVersion: Rev.F; PackageVersion: Aug-2005; PackageReference: RM-8; PackageDescription: 8-Lead Mini Small Outline Package [MSOP]; Supplier 1: Digi-Key; Supplier Part Number 1: AD5453YRMZ-ND; Supplier 2: Mouser; Supplier Part Number 2: 584-AD5453YRMZ; Packing: Tube; RoHS: Y; Mounting Technology: Surface Mount; Code_JEDEC: MO-187-AA; ComponentLink1Description: Manufacturer URL; ComponentLink1URL: http://www.analog.com/en/index.html; ComponentLink2Description: Datasheet; ComponentLink2URL: http://www.analog.com/static/imported-files/data_sheets/AD5450_5451_5452_5453.pdf; ComponentLink3Description: Package Specification; ComponentLink3URL: http://www.analog.com/static/imported-files/packages/PKG_PDF/MSOP%28RM%29/RM_8.pdf; ComponentLink4Description: Product URL; ComponentLink4URL: http://www.analog.com/en/digital-to-analog-converters/da-converters/ad5453/products/product.html; ComponentLink5Description: Reference Design URL; ComponentLink5URL: http://www.analog.com/en/digital-to-analog-converters/da-converters/ad5453/products/product.html#prod_cross_sell
footprint RM-8_N (TSOP, 8-Leads, Body 3x3mm, Pitch 0.65mm, IPC Medium Density)
footprint RM-8_L (TSOP, 8-Leads, Body 3x3mm, Pitch 0.65mm, IPC High Density)
footprint RM-8_M (TSOP, 8-Leads, Body 3x3mm, Pitch 0.65mm, IPC Low Density)
pins: 1 IOUT1 (out) "DAC Current Output.", 2 GND (power) "Ground Pin.", 3 SCLK (in) "Serial Clock Input. By default, data is clocked into the input shift register upon the falling edge of the serial clock input. Alternatively, by means of the serial control bits, the device can be configured such that data (See Datasheet)", 4 SDIN (in) "Serial Data Input. Data is clocked into the 16-bit input register upon the active edge of the serial clock input. By default, in power-up mode data is clocked into the shift register upon the falling edge of SCLK. The (See Datasheet)", 5 ~{SYNC} (in) "Active Low Control Input. This is the frame synchronization signal for the input data. Data is loaded to the shift register upon the active edge of the following clocks.", 6 VDD (power) "Positive Power Supply Input. These parts can operate from a supply of 2.5 V to 5.5 V.", 7 VREF (in) "DAC Reference Voltage Input.", 8 RFB (in) "DAC Feedback Resistor. Establish voltage output for the DAC by connecting to external amplifier output."

## AD5453YRMZ-REEL
designator U?
Single 14-Bit High Bandwidth Multiplying Digital-to-Analog Converter, -40 to +125 degC, RM-8, Pb-Free, Reel; Generic Part Number: AD5453; Manufacturer: Analog Devices; PartNumber: AD5453YRMZ-REEL; # DAC Outputs: 1; Max V+: 5.5V; Resolution (Bits): 14; Settling Time: 180ns; Single Supply: Yes; DatasheetVersion: Rev.F; PackageVersion: Aug-2005; PackageReference: RM-8; PackageDescription: 8-Lead Mini Small Outline Package [MSOP]; Supplier 1: Digi-Key; Supplier Part Number 1: AD5453YRMZ-REEL-ND; Supplier 2: Mouser; Supplier Part Number 2: 584-AD5453YRMZ-R; Packing: Reel; RoHS: Y; Mounting Technology: Surface Mount; Code_JEDEC: MO-187-AA; ComponentLink1Description: Manufacturer URL; ComponentLink1URL: http://www.analog.com/en/index.html; ComponentLink2Description: Datasheet; ComponentLink2URL: http://www.analog.com/static/imported-files/data_sheets/AD5450_5451_5452_5453.pdf; ComponentLink3Description: Package Specification; ComponentLink3URL: http://www.analog.com/static/imported-files/packages/PKG_PDF/MSOP%28RM%29/RM_8.pdf; ComponentLink4Description: Product URL; ComponentLink4URL: http://www.analog.com/en/digital-to-analog-converters/da-converters/ad5453/products/product.html; ComponentLink5Description: Reference Design URL; ComponentLink5URL: http://www.analog.com/en/digital-to-analog-converters/da-converters/ad5453/products/product.html#prod_cross_sell
footprint RM-8_N (TSOP, 8-Leads, Body 3x3mm, Pitch 0.65mm, IPC Medium Density)
footprint RM-8_L (TSOP, 8-Leads, Body 3x3mm, Pitch 0.65mm, IPC High Density)
footprint RM-8_M (TSOP, 8-Leads, Body 3x3mm, Pitch 0.65mm, IPC Low Density)
pins: 1 IOUT1 (out) "DAC Current Output.", 2 GND (power) "Ground Pin.", 3 SCLK (in) "Serial Clock Input. By default, data is clocked into the input shift register upon the falling edge of the serial clock input. Alternatively, by means of the serial control bits, the device can be configured such that data (See Datasheet)", 4 SDIN (in) "Serial Data Input. Data is clocked into the 16-bit input register upon the active edge of the serial clock input. By default, in power-up mode data is clocked into the shift register upon the falling edge of SCLK. The (See Datasheet)", 5 ~{SYNC} (in) "Active Low Control Input. This is the frame synchronization signal for the input data. Data is loaded to the shift register upon the active edge of the following clocks.", 6 VDD (power) "Positive Power Supply Input. These parts can operate from a supply of 2.5 V to 5.5 V.", 7 VREF (in) "DAC Reference Voltage Input.", 8 RFB (in) "DAC Feedback Resistor. Establish voltage output for the DAC by connecting to external amplifier output."

## AD5453YRMZ-REEL7
designator U?
Single 14-Bit High Bandwidth Multiplying Digital-to-Analog Converter, -40 to +125 degC, RM-8, Pb-Free, Reel; Generic Part Number: AD5453; Manufacturer: Analog Devices; PartNumber: AD5453YRMZ-REEL7; # DAC Outputs: 1; Max V+: 5.5V; Resolution (Bits): 14; Settling Time: 180ns; Single Supply: Yes; DatasheetVersion: Rev.F; PackageVersion: Aug-2005; PackageReference: RM-8; PackageDescription: 8-Lead Mini Small Outline Package [MSOP]; Supplier 1: Digi-Key; Supplier Part Number 1: AD5453YRMZ-REEL7TR-ND; Supplier 2: Digi-Key; Supplier Part Number 2: AD5453YRMZ-REEL7CT-ND; Supplier 3: Digi-Key; Supplier Part Number 3: AD5453YRMZ-REEL7DKR-ND; Supplier 4: Newark; Supplier Part Number 4: 45P6460; Supplier 5: Mouser; Supplier Part Number 5: 584-AD5453YRMZ-R7; Packing: Reel; RoHS: Y; Mounting Technology: Surface Mount; Code_JEDEC: MO-187-AA; ComponentLink1Description: Manufacturer URL; ComponentLink1URL: http://www.analog.com/en/index.html; ComponentLink2Description: Datasheet; ComponentLink2URL: http://www.analog.com/static/imported-files/data_sheets/AD5450_5451_5452_5453.pdf; ComponentLink3Description: Package Specification; ComponentLink3URL: http://www.analog.com/static/imported-files/packages/PKG_PDF/MSOP%28RM%29/RM_8.pdf; ComponentLink4Description: Product URL; ComponentLink4URL: http://www.analog.com/en/digital-to-analog-converters/da-converters/ad5453/products/product.html; ComponentLink5Description: Reference Design URL; ComponentLink5URL: http://www.analog.com/en/digital-to-analog-converters/da-converters/ad5453/products/product.html#prod_cross_sell
footprint RM-8_N (TSOP, 8-Leads, Body 3x3mm, Pitch 0.65mm, IPC Medium Density)
footprint RM-8_L (TSOP, 8-Leads, Body 3x3mm, Pitch 0.65mm, IPC High Density)
footprint RM-8_M (TSOP, 8-Leads, Body 3x3mm, Pitch 0.65mm, IPC Low Density)
pins: 1 IOUT1 (out) "DAC Current Output.", 2 GND (power) "Ground Pin.", 3 SCLK (in) "Serial Clock Input. By default, data is clocked into the input shift register upon the falling edge of the serial clock input. Alternatively, by means of the serial control bits, the device can be configured such that data (See Datasheet)", 4 SDIN (in) "Serial Data Input. Data is clocked into the 16-bit input register upon the active edge of the serial clock input. By default, in power-up mode data is clocked into the shift register upon the falling edge of SCLK. The (See Datasheet)", 5 ~{SYNC} (in) "Active Low Control Input. This is the frame synchronization signal for the input data. Data is loaded to the shift register upon the active edge of the following clocks.", 6 VDD (power) "Positive Power Supply Input. These parts can operate from a supply of 2.5 V to 5.5 V.", 7 VREF (in) "DAC Reference Voltage Input.", 8 RFB (in) "DAC Feedback Resistor. Establish voltage output for the DAC by connecting to external amplifier output."

## AD5453YUJZ-REEL
designator U?
Single 14-Bit High Bandwidth Multiplying Digital-to-Analog Converter, -40 to +125 degC, UJ-8, Pb-Free, Reel; Generic Part Number: AD5453; Manufacturer: Analog Devices; PartNumber: AD5453YUJZ-REEL; # DAC Outputs: 1; Max V+: 5.5V; Resolution (Bits): 14; Settling Time: 180ns; Single Supply: Yes; DatasheetVersion: Rev.F; PackageVersion: Dec-2004; PackageReference: UJ-8; PackageDescription: 8-Lead Thin Small Outline Transistor Package [TSOT]; Supplier 1: Digi-Key; Supplier Part Number 1: AD5453YUJZ-REEL-ND; Supplier 2: Newark; Supplier Part Number 2: 52M2952; Supplier 3: Mouser; Supplier Part Number 3: 584-AD5453YUJZ-R; Packing: Reel; RoHS: Y; Mounting Technology: Surface Mount; Code_JEDEC: MO-193-BA*; ComponentLink1Description: Manufacturer URL; ComponentLink1URL: http://www.analog.com/en/index.html; ComponentLink2Description: Datasheet; ComponentLink2URL: http://www.analog.com/static/imported-files/data_sheets/AD5450_5451_5452_5453.pdf; ComponentLink3Description: Package Specification; ComponentLink3URL: http://www.analog.com/static/imported-files/packages/PKG_PDF/TSOT(UJ)/UJ_8.pdf; ComponentLink4Description: Product URL; ComponentLink4URL: http://www.analog.com/en/digital-to-analog-converters/da-converters/ad5453/products/product.html; ComponentLink5Description: Reference Design URL; ComponentLink5URL: http://www.analog.com/en/digital-to-analog-converters/da-converters/ad5453/products/product.html#prod_cross_sell
footprint UJ-8_N (SOP, 8-Leads, Body 2.9x1.6mm, Pitch 0.65mm, IPC Medium Density)
footprint UJ-8_L (SOP, 8-Leads, Body 2.9x1.6mm, Pitch 0.65mm, IPC High Density)
footprint UJ-8_M (SOP, 8-Leads, Body 2.9x1.6mm, Pitch 0.65mm, IPC Low Density)
pins: 1 RFB "DAC Feedback Resistor. Establish voltage output for the DAC by connecting to external amplifier output.", 2 VREF (in) "DAC Reference Voltage Input.", 3 VDD (power) "Positive Power Supply Input. These parts can operate from a supply of 2.5 V to 5.5 V.", 4 ~{SYNC} (in) "Active Low Control Input. This is the frame synchronization signal for the input data. Data is loaded to the shift register upon the active edge of the following clocks.", 5 SDIN (in) "Serial Data Input. Data is clocked into the 16-bit input register upon the active edge of the serial clock input. By default, in power-up mode data is clocked into the shift register upon the falling edge of SCLK. The (See Datasheet)", 6 SCLK (in) "Serial Clock Input. By default, data is clocked into the input shift register upon the falling edge of the serial clock input. Alternatively, by means of the serial control bits, the device can be configured such that data (See Datasheet)", 7 GND (power) "Ground Pin.", 8 IOUT1 (out) "DAC Current Output."